# Altium footprint library SOIC127P1030-20.PcbLib: 1 footprints
Each footprint in its own frame and in the unit in brackets; x right, y up, seen from the top. Pads: shape width x height; smd on the part's side, far side on the other; paste and mask are expansions set on the pad; w line width, h text height; cw(c..) or ccw(c..) is an arc to the next point about the centre after c.
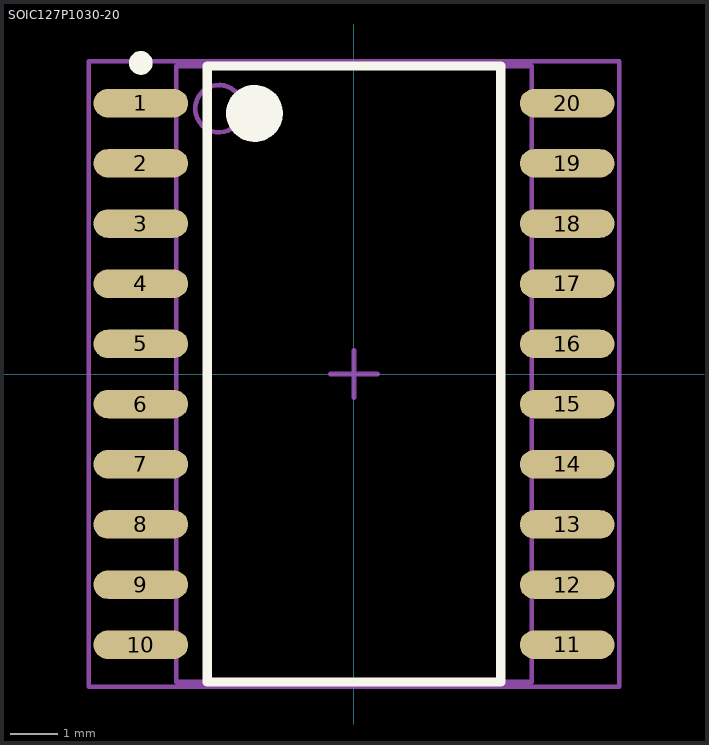
[diagram p0: the footprint, top view; thin cyan lines are the x and y axes]

## SOIC127P1030-20 [mm] "SOIC, 20-Leads, Body 12.8x7.5mm, Pitch 1.27mm, IPC High Density"
height 2.65
pads (20):
  oval 2x0.6 smd: 1(-4.5,5.715) 2(-4.5,4.445) 3(-4.5,3.175) 4(-4.5,1.905) 5(-4.5,0.635) 6(-4.5,-0.635) 7(-4.5,-1.905) 8(-4.5,-3.175) 9(-4.5,-4.445) 10(-4.5,-5.715) 11(4.5,-5.715) 12(4.5,-4.445) 13(4.5,-3.175) 14(4.5,-1.905) 15(4.5,-0.635) 16(4.5,0.635) 17(4.5,1.905) 18(4.5,3.175) 19(4.5,4.445) 20(4.5,5.715)
Top Overlay:
  circle w0.25: c-4.5,6.565 r0.125
  circle w0.6: c-2.1,5.5 r0.3
  lines w0.2: -3.1,-6.5 -3.1,6.5 3.1,6.5 3.1,-6.5 -3.1,-6.5
Mechanical 13:
  circle w0.1: c-2.85,5.6 r0.5
  lines w0.1: -3.75,-6.5 -3.75,6.5 3.75,6.5 3.75,-6.5 -3.75,-6.5
Mechanical 15:
  lines w0.1: -0.5,0 0.5,0 ; 0,-0.5 0,0.5 ; -5.6,-6.6 -5.6,6.6 5.6,6.6 5.6,-6.6 -5.6,-6.6
3D body: height 2.65, standoff 0, extent -3.75,-6.5 3.75,6.5